# Altium schematic symbol library PO_Mod_SCH_Lib.SchLib: 1 symbol
Pins are listed as number, name and electrical type; pins without a type are passive.

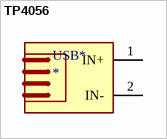
[diagram p0: symbol TP4056]

## TP4056
designator USB*
footprint TP4056
pins: 1 IN+, 2 IN-